# Altium schematic symbol library RNF14FTD13K0.SchLib: 2 symbols
Pins are listed as number, name and electrical type; pins without a type are passive.

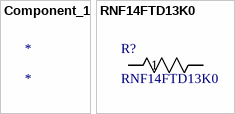
[diagram p0: symbols Component_1 to RNF14FTD13K0]

## Component_1
designator *

## RNF14FTD13K0
designator R?
No Description Available; Mfr_Name: Stackpole International; Copyright: Copyright (C) 2022 Ultra Librarian. All rights reserved.; Manufacturer_Part_Number: RNF14FTD13K0; Digi-Key_Part_Number_1: RNF14FTD13K0CT-ND; Digi-Key_Part_Number_2: RNF14FTD13K0TR-ND; RefDes: RefDes; Type: DEV
footprint STA_RNF14_STP
pins: 1, 2